# Altium footprint library ЕРКФ.426477.005.PcbLib: 7 footprints
Each footprint in its own frame and in the unit in brackets; x right, y up, seen from the top. Pads: shape width x height; smd on the part's side, far side on the other; paste and mask are expansions set on the pad; w line width, h text height; cw(c..) or ccw(c..) is an arc to the next point about the centre after c.
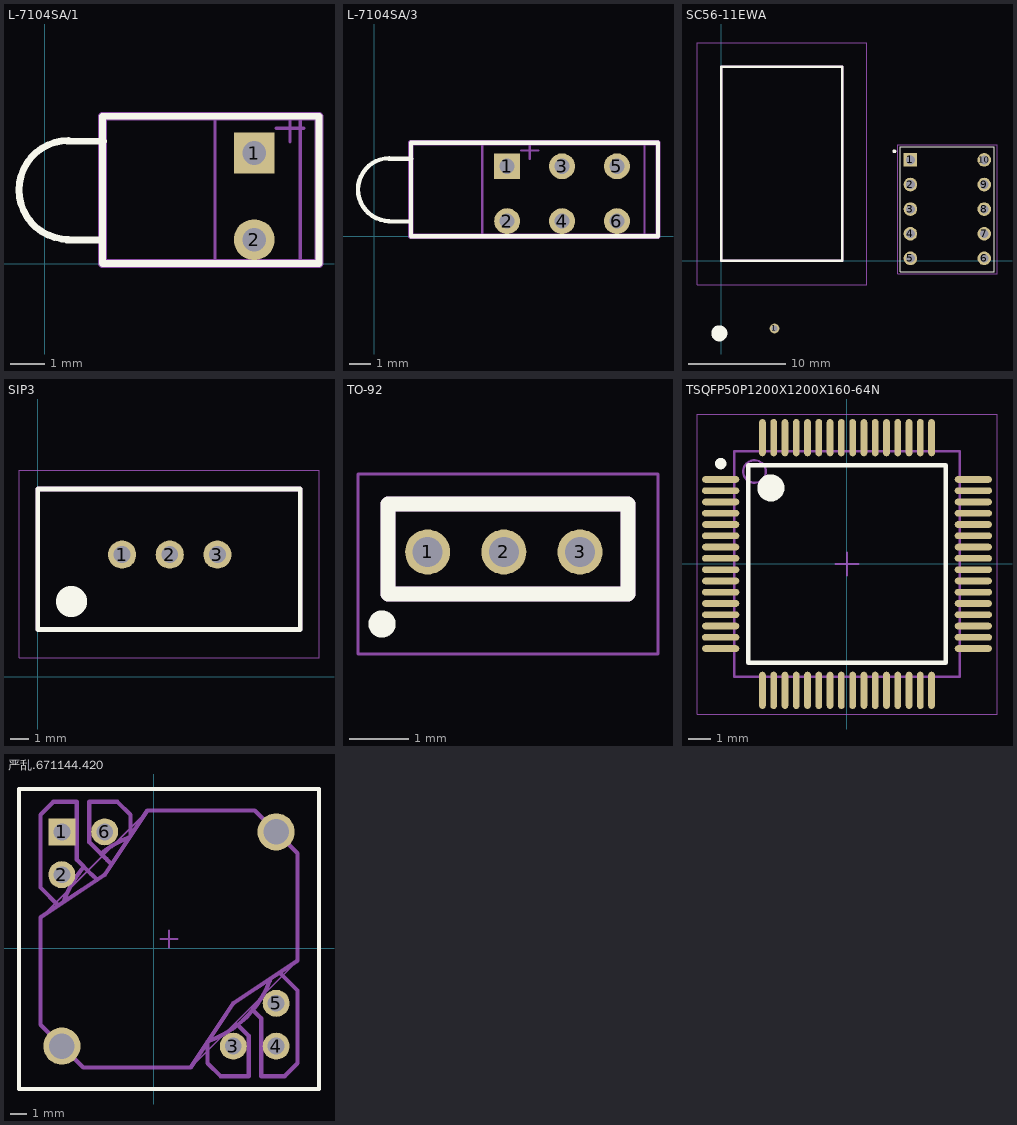
[diagram p0: the footprints below, top view; thin cyan lines are the x and y axes]

## L-7104SA/1 [mm]
pads (2):
  rect 1.2x1.2 hole 0.7: 1(6.15,3.24)
  round 1.2 hole 0.7: 2(6.15,0.7)
Top Overlay:
  lines w0.2: 0.65,0.687 1.7,0.687 ; 0.675,3.588 1.725,3.588 ; 0.7,0.71 cw(c0.7,2.16) 0.7,3.61 ; 1.7,0 1.7,4.32 8.05,4.32 8.05,0 1.7,0
Mechanical 3:
  lines w0.254: 1.7,0 1.7,4.32 8.05,4.32 8.05,0 1.7,0
Mechanical 13:
  lines w0.1: 1.7,0 8.05,0 8.05,4.32 1.7,4.32 1.7,0
Mechanical 15:
  lines w0.1: 6.8,3.975 7.6,3.975 ; 7.2,3.575 7.2,4.375 ; 5,0 5,4.32 7.5,4.32 7.5,0 5,0
3D body: height 9.85, standoff 0, extent 1.7,0.012 8.026,4.293

## L-7104SA/3 [mm]
pads (6):
  rect 1.2x1.2 hole 0.7: 1(6.15,3.24)
  round 1.2 hole 0.7: 2(6.15,0.7) 3(8.69,3.24) 4(8.69,0.7) 5(11.23,3.24) 6(11.23,0.7)
Top Overlay:
  lines w0.2: 0.65,0.687 1.7,0.687 ; 0.675,3.588 1.725,3.588 ; 0.7,0.71 cw(c0.7,2.16) 0.7,3.61 ; 1.7,0 13.13,0 13.13,4.32 1.7,4.32 1.7,0
Mechanical 3:
  lines w0.254: 1.7,0 13.13,0 13.13,4.32 1.7,4.32 1.7,0
Mechanical 13:
  lines w0.1: 1.7,0 1.7,4.32 13.13,4.32 13.13,0 1.7,0
Mechanical 15:
  lines w0.1: 6.8,3.975 7.6,3.975 ; 7.2,3.575 7.2,4.375 ; 5,0 12.5,0 12.5,4.32 5,4.32 5,0
3D body: height 9.85, standoff 0, extent 1.7,0.012 13.132,4.293

## SC56-11EWA [mm]
pads (11):
  round 1 hole 0.6: 1(5.5,-7)
  rect 1.408x1.408 hole 0.9: 1(19.532,10.402)
  round 1.408 hole 0.9: 2(19.532,7.862) 3(19.532,5.322) 4(19.532,2.782) 5(19.532,0.242) 6(27.152,0.242) 7(27.152,2.782) 8(27.152,5.322) 9(27.152,7.862) 10(27.152,10.402)
Top Overlay:
  circle w1.254: c-0.2,-7.5 r0.2
  circle w0.2: c17.882,11.292 r0.1
  lines w0.127: 18.492,-1.128 28.192,-1.128 28.192,11.772 18.492,11.772 18.492,-1.128
  lines w0.254: 0,0 12.5,0 12.5,20 0,20 0,0
Mechanical 3:
  lines w0.254: 0,0 0,20 12.5,20 12.5,0 0,0
Mechanical 13:
  lines w0.1: 0,0 12.5,0 12.5,20 0,20 0,0
Mechanical 15:
  lines w0.05: -2.5,-2.5 15,-2.5 15,22.5 -2.5,22.5 -2.5,-2.5
Mechanical 16:
  lines w0.05: 18.212,-1.328 18.212,11.972 28.472,11.972 28.472,-1.328 18.212,-1.328
3D body: height 10.2, standoff 0, extent 0,0 12.5,20

## SIP3 [mm]
pads (3):
  round 1.5 hole 0.9: 1(4.5,6.5) 2(7.04,6.5) 3(9.58,6.5)
Top Overlay:
  circle w1.254: c1.8,4 r0.2
  lines w0.254: 0,2.5 14,2.5 14,10 0,10 0,2.5
Mechanical 3:
  lines w0.254: 0,2.5 0,10 14,10 14,2.5 0,2.5
Mechanical 13:
  lines w0.1: 0,2.5 14,2.5 14,10 0,10 0,2.5
Mechanical 15:
  lines w0.05: -1,1 15,1 15,11 -1,11 -1,1
3D body: height 10.2, standoff 0, extent 0,2.5 14,10

## TO-92 [mm]
pads (3):
  round 0.75 hole 0.5: 1(4.66,4.7) 2(5.93,4.7) 3(7.2,4.7)
Top Overlay:
  circle w0.254: c3.9,3.5 r0.1
  lines w0.254: 4,4 8,4 8,5.5 4,5.5 4,4
Mechanical 3:
  lines w0.254: 4,4 4,5.5 8,5.5 8,4 4,4
Mechanical 13:
  lines w0.1: 4,4 8,4 8,5.5 4,5.5 4,4
Mechanical 15:
  lines w0.05: 3.5,3 8.5,3 8.5,6 3.5,6 3.5,3
3D body: height 10.2, standoff 0, extent 4,4 8,5.5

## TSQFP50P1200X1200X160-64N [mm] "TSQFP, 64-Leads, Body 10,00x10,00mm, Pitch 0,50mm, IPC Medium Density"
height 1.6
pads (64):
  oval 1.65x0.3 smd: 1(-5.6,3.75) 2(-5.6,3.25) 3(-5.6,2.75) 4(-5.6,2.25) 5(-5.6,1.75) 6(-5.6,1.25) 7(-5.6,0.75) 8(-5.6,0.25) 9(-5.6,-0.25) 10(-5.6,-0.75) 11(-5.6,-1.25) 12(-5.6,-1.75) 13(-5.6,-2.25) 14(-5.6,-2.75) 15(-5.6,-3.25) 16(-5.6,-3.75) 33(5.6,-3.75) 34(5.6,-3.25) 35(5.6,-2.75) 36(5.6,-2.25) 37(5.6,-1.75) 38(5.6,-1.25) 39(5.6,-0.75) 40(5.6,-0.25) 41(5.6,0.25) 42(5.6,0.75) 43(5.6,1.25) 44(5.6,1.75) 45(5.6,2.25) 46(5.6,2.75) 47(5.6,3.25) 48(5.6,3.75)
  oval 0.3x1.65 smd: 17(-3.75,-5.6) 18(-3.25,-5.6) 19(-2.75,-5.6) 20(-2.25,-5.6) 21(-1.75,-5.6) 22(-1.25,-5.6) 23(-0.75,-5.6) 24(-0.25,-5.6) 25(0.25,-5.6) 26(0.75,-5.6) 27(1.25,-5.6) 28(1.75,-5.6) 29(2.25,-5.6) 30(2.75,-5.6) 31(3.25,-5.6) 32(3.75,-5.6) 49(3.75,5.6) 50(3.25,5.6) 51(2.75,5.6) 52(2.25,5.6) 53(1.75,5.6) 54(1.25,5.6) 55(0.75,5.6) 56(0.25,5.6) 57(-0.25,5.6) 58(-0.75,5.6) 59(-1.25,5.6) 60(-1.75,5.6) 61(-2.25,5.6) 62(-2.75,5.6) 63(-3.25,5.6) 64(-3.75,5.6)
Top Overlay:
  circle w0.6: c-3.375,3.375 r0.3
  circle w0.25: c-5.6,4.45 r0.125
  lines w0.2: -4.375,-4.375 4.375,-4.375 4.375,4.375 -4.375,4.375 -4.375,-4.375
Mechanical 13:
  circle w0.1: c-4.1,4.1 r0.5
  lines w0.1: -5,-5 5,-5 5,5 -5,5 -5,-5
Mechanical 15:
  lines w0.05: -6.65,-6.65 6.65,-6.65 6.65,6.65 -6.65,6.65 -6.65,-6.65
  lines w0.1: -0.5,0 0.5,0 ; 0,-0.5 0,0.5
3D body: height 1.6, standoff 0.05, extent -5,-5 5,5

## 严乱.671144.420 [mm]
pads (8):
  rect 1.6x1.6 hole 1: 1(-5.437,6.894)
  round 1.6 hole 1: 2(-5.437,4.354) 3(4.723,-5.806) 4(7.263,-5.806) 5(7.263,-3.266) 6(-2.897,6.894)
  round 2.2 hole 1.5: ""(-5.437,-5.806) ""(7.263,6.894)
Top Overlay:
  lines w0.254: -7.977,-8.346 -7.977,9.434 9.803,9.434 9.803,-8.346 -7.977,-8.346
Mechanical 3:
  lines w0.254: -5.649,2.534 -6.707,3.592 -6.707,7.91 -5.945,8.672 -4.548,8.672 -4.548,7.783 -4.548,6.005 -4.548,5.243 -3.702,4.397 -3.702,4.388 ; -5.331,2.753 cw(c0.913,0.544) -4.137,4.83 ; -3.623,4.326 -3.359,4.061 ; -3.126,5.593 cw(c0.913,0.544) -1.474,6.553 ; -2.804,5.309 -2.836,5.309 -3.811,6.284 -3.811,7.504 -3.811,8.672 -2.135,8.672 -1.373,7.91 -1.373,6.767 ; -2.74,5.232 -2.74,5.213 -2.558,5.031 ; 3.192,-5.532 ccw(c1.181,0.227) 6.88,-1.947 ; 3.199,-5.679 3.199,-6.822 3.961,-7.584 5.637,-7.584 5.637,-6.416 5.637,-5.196 4.977,-4.536 ; 5.866,-3.647 6.374,-4.155 6.374,-7.584 7.771,-7.584 8.533,-6.822 8.533,-2.504 7.47,-1.441 ; -6.707,-4.536 -5.437,-5.806 -4.167,-7.076 2.183,-7.076 4.723,-3.266 8.533,-0.726 8.533,5.624 7.263,6.894 5.993,8.164 -0.357,8.164 -2.897,4.354 -6.707,1.814 -6.707,-4.536
Mechanical 13:
  lines w0.1: -6.687,-4.481 -6.687,1.794 -0.312,8.169 5.988,8.169 8.538,5.619 8.538,-0.731 2.213,-7.056 -4.112,-7.056 -6.687,-4.481
Mechanical 15:
  lines w0.05: -7.977,-8.346 9.738,-8.346 9.738,9.419 -7.977,9.419 -7.977,-8.346
  lines w0.1: 0.413,0.544 1.413,0.544 ; 0.913,0.044 0.913,1.044
3D body: height 14, standoff 0, extent -6.737,-7.106 8.538,8.169